# Altium schematic symbol library KHOEMACH_SCHLIB.SchLib: 60 symbols
Pins are listed as number, name and electrical type; pins without a type are passive.

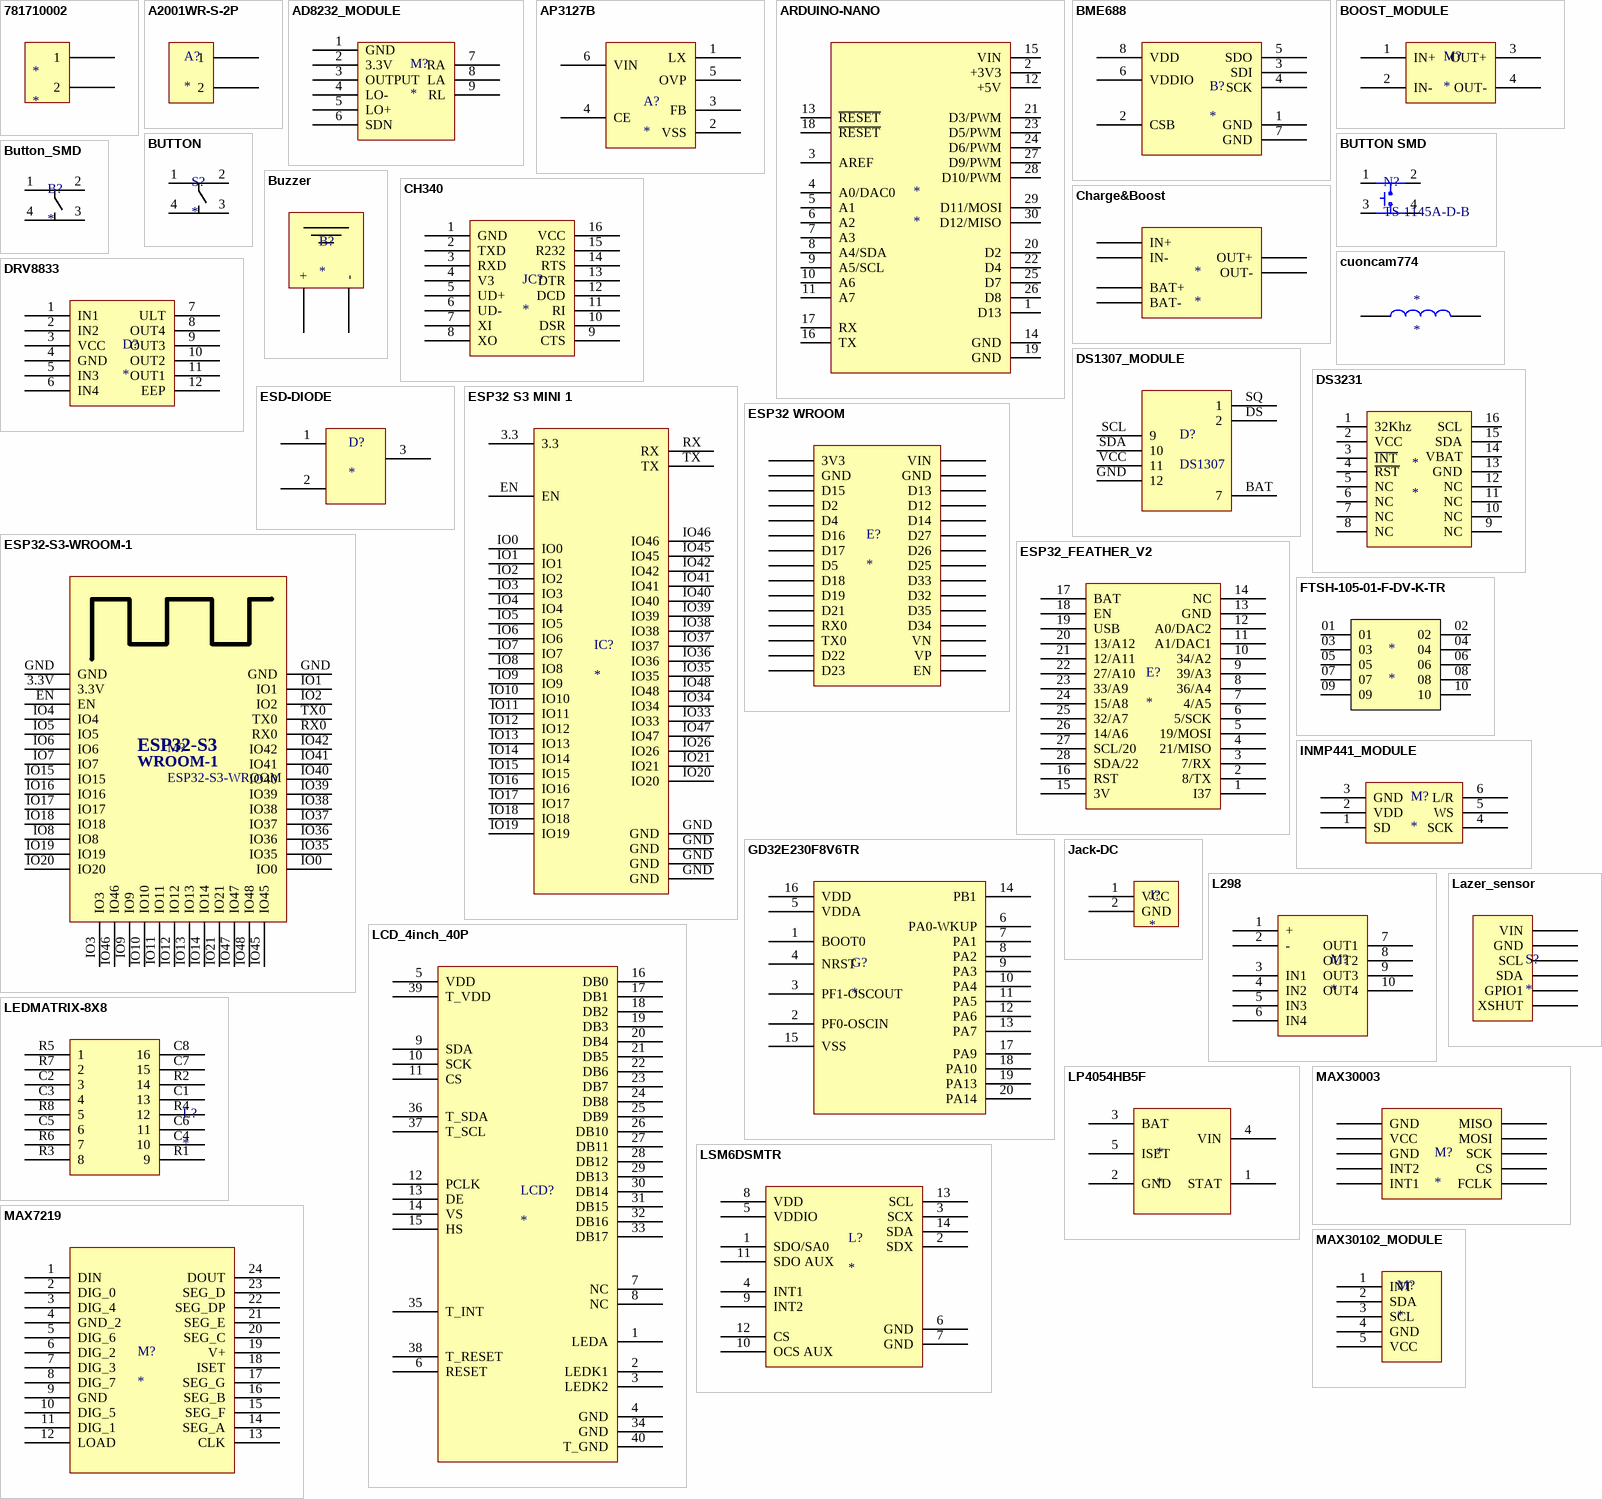
[diagram p0: symbols 781710002 to MAX30102_MODULE]

## 781710002
designator *
footprint 781710002
pins: 1, 2

## A2001WR-S-2P
designator A?
footprint A2001WR-S-2P
pins: 1, 2

## AD8232_MODULE
designator M?
footprint AD8232_MODULE
pins: 1 GND, 2 3.3V, 3 OUTPUT, 4 LO-, 5 LO+, 6 SDN, 7 RA, 8 LA, 9 RL

## AP3127B
designator A?
S0T-23-6L
footprint AP3127B (SOT23, 6-Leads, Body 2,92x2,80mm, Pitch 0,95mm, IPC Medium Density)
pins: 1 LX, 2 VSS, 3 FB, 4 CE, 5 OVP, 6 VIN

## ARDUINO-NANO
designator *
footprint ARDUINO-NANO
pins: 1 D13, 2 +3V3, 3 AREF, 4 A0/DAC0, 5 A1, 6 A2, 7 A3, 8 A4/SDA, 9 A5/SCL, 10 A6, 11 A7, 12 +5V, 13 ~{RESET}, 14 GND, 15 VIN, 16 TX, 17 RX, 18 ~{RESET}, 19 GND, 20 D2, 21 D3/PWM, 22 D4, 23 D5/PWM, 24 D6/PWM, 25 D7, 26 D8, 27 D9/PWM, 28 D10/PWM, 29 D11/MOSI, 30 D12/MISO

## BME688
designator B?
footprint BME688
pins: 1 GND, 2 CSB, 3 SDI, 4 SCK, 5 SDO, 6 VDDIO, 7 GND, 8 VDD

## BOOST_MODULE
designator M?
footprint BOOST_MODULE_MINI
pins: 1 IN+, 2 IN-, 3 OUT+, 4 OUT-

## BUTTON
designator S?
6X6X5mm
footprint BUTTON 4PIN
pins: 1, 2, 3, 4

## BUTTON SMD
designator N?, comment TS-1145A-D-B
https://www.lcsc.com/product-detail/Tactile-Switches_XKB-Connection-TS-1145A-D-B_C18198078.html
footprint BUTTONSMD (SKRPACE010( 2.5X4.2X3.2))
pins: 1, 2, 3, 4

## Button_SMD
designator B?
5x5
footprint Button_SMD (5x5)
pins: 1, 2, 3, 4

## Buzzer
designator B?
12xx
footprint Buzzer
pins: +, -

## CH340
designator JC?
footprint ch340c (chip)
pins: 1 GND, 2 TXD, 3 RXD, 4 V3, 5 UD+, 6 UD-, 7 XI, 8 XO, 9 CTS, 10 DSR, 11 RI, 12 DCD, 13 DTR, 14 RTS, 15 R232, 16 VCC

## Charge&Boost
designator *
footprint Charge&Boost
pins: BAT+, BAT-, IN+, IN-, OUT+, OUT-

## cuoncam774
designator *
footprint cuoncam (7x7x4)
pins: 1, 2

## DRV8833
designator D?
Module
footprint DRV8833 (Module)
pins: 1 IN1, 2 IN2, 3 VCC, 4 GND, 5 IN3, 6 IN4, 7 ULT, 8 OUT4, 9 OUT3, 10 OUT2, 11 OUT1, 12 EEP

## DS1307_MODULE
designator D?, comment DS1307
footprint DS1307-MODULE
footprint DS1307-MODULE
pins: BAT 7, DS 2, GND 12, SCL 9, SDA 10, SQ 1, VCC 11

## DS3231
designator *
footprint DS3231
pins: 1 32Khz (power), 2 VCC (power), 3 ~{INT} (power), 4 ~{RST} (power), 5 NC (power), 6 NC (power), 7 NC (power), 8 NC (power), 9 NC (power), 10 NC (power), 11 NC (power), 12 NC (power), 13 GND (power), 14 VBAT (power), 15 SDA (power), 16 SCL (power)

## ESD-DIODE
designator D?
footprint ESD-DIODE (CESDBLC5V0AP-SOT23)
pins: 1, 2, 3

## ESP32 S3 MINI 1
designator IC?
footprint ESP32 S3 MINI1
pins: 3.3, EN, GND, GND, GND, GND, IO0, IO1, IO2, IO3, IO4, IO5, IO6, IO7, IO8, IO9, IO10, IO11, IO12, IO13, IO14, IO15, IO16, IO17, IO18, IO19, IO20, IO21, IO26, IO33, IO34, IO35, IO36, IO37, IO38, IO39, IO40, IO41, IO42, IO45, IO46, IO47, IO48, RX, TX

## ESP32 WROOM
designator E?
footprint ESP32 WROOM
pins: 3V3, D2, D4, D5, D12, D13, D14, D15, D16, D17, D18, D19, D21, D22, D23, D25, D26, D27, D32, D33, D34, D35, EN, GND, GND, RX0, TX0, VIN, VN, VP

## ESP32-S3-WROOM-1
designator M?, comment ESP32-S3-WROOM
Datasheet: https://www.espressif.com/sites/default/files/documentation/esp32-s3-wroom-1_wroom-1u_datasheet_en.pdf
footprint ESP32-S3-WROOM-1
pins: 3.3V, EN, GND, GND, IO0, IO1, IO2, IO3, IO4, IO5, IO6, IO7, IO8, IO9, IO10, IO11, IO12, IO13, IO14, IO15, IO16, IO17, IO18, IO19, IO20, IO21, IO35, IO36, IO37, IO38, IO39, IO40, IO41, IO42, IO45, IO46, IO47, IO48, RX0, TX0
text: ESP32-S3; WROOM-1

## ESP32_FEATHER_V2
designator E?
ESP32 Feather V2
footprint ESP32_FEATHER_V2
pins: 1 I37, 2 8/TX, 3 7/RX, 4 21/MISO, 5 19/MOSI, 6 5/SCK, 7 4/A5, 8 36/A4, 9 39/A3, 10 34/A2, 11 A1/DAC1, 12 A0/DAC2, 13 GND, 14 NC, 15 3V, 16 RST, 17 BAT, 18 EN, 19 USB, 20 13/A12, 21 12/A11, 22 27/A10, 23 33/A9, 24 15/A8, 25 32/A7, 26 14/A6, 27 SCL/20, 28 SDA/22

## FTSH-105-01-F-DV-K-TR
designator *
footprint FTSH-105-01-F-DV-K-TR
pins: 01, 02, 03, 04, 05, 06, 07, 08, 09, 10

## GD32E230F8V6TR
designator G?
GD32E230Fx TSSOP20 pin definitions
footprint GD32E230F8V6TR (TSOP, 20-Leads, Body 6,50x4,40mm, Pitch 0,65mm, IPC Medium Density)
pins: 1 BOOT0, 2 PF0-OSCIN, 3 PF1-OSCOUT, 4 NRST, 5 VDDA, 6 PA0-WKUP, 7 PA1, 8 PA2, 9 PA3, 10 PA4, 11 PA5, 12 PA6, 13 PA7, 14 PB1, 15 VSS, 16 VDD, 17 PA9, 18 PA10, 19 PA13, 20 PA14

## INMP441_MODULE
designator M?
footprint INMP441_MODULE
pins: 1 SD, 2 VDD, 3 GND, 4 SCK, 5 WS, 6 L/R

## Jack-DC
designator J?
footprint Jack-DC
pins: 1 VCC, 2 GND

## L298
designator M?
Module Mini
footprint L298 (Module)
pins: 1 +, 2 -, 3 IN1, 4 IN2, 5 IN3, 6 IN4, 7 OUT1, 8 OUT2, 9 OUT3, 10 OUT4

## Lazer_sensor
designator S?
VL53L0X (ToF-F) 940nm GY-VL53L0XV2 I2C
footprint Lazer_Sensor (VL53L0X (ToF-F) 940nm GY-VL53L0XV2 I2C)
pins: 1 VIN, 2 GND, 3 SCL, 4 SDA, 5 GPIO1, 6 XSHUT

## LCD_4inch_40P
designator LCD?
footprint LCD_40P_4inch
pins: 1 LEDA, 2 LEDK1, 3 LEDK2, 4 GND, 5 VDD, 6 RESET, 7 NC, 8 NC, 9 SDA, 10 SCK, 11 CS, 12 PCLK, 13 DE, 14 VS, 15 HS, 16 DB0, 17 DB1, 18 DB2, 19 DB3, 20 DB4, 21 DB5, 22 DB6, 23 DB7, 24 DB8, 25 DB9, 26 DB10, 27 DB11, 28 DB12, 29 DB13, 30 DB14, 31 DB15, 32 DB16, 33 DB17, 34 GND, 35 T_INT, 36 T_SDA, 37 T_SCL, 38 T_RESET, 39 T_VDD, 40 T_GND

## LEDMATRIX-8X8
designator L?
footprint LEDMATRIX_8X8 (3mm)
pins: C1 13, C2 3, C3 4, C4 10, C5 6, C6 11, C7 15, C8 16, R1 9, R2 14, R3 8, R4 12, R5 1, R6 7, R7 2, R8 5

## LP4054HB5F
designator *
footprint LP4054HB5F (SOT23-5)
pins: 1 STAT, 2 GND, 3 BAT, 4 VIN, 5 ISET

## LSM6DSMTR
designator L?
footprint LSM6DSMTR
pins: 1 SDO/SA0, 2 SDX, 3 SCX, 4 INT1, 5 VDDIO, 6 GND, 7 GND, 8 VDD, 9 INT2, 10 OCS AUX, 11 SDO AUX, 12 CS, 13 SCL, 14 SDA

## MAX7219
designator M?
footprint MAX7219
pins: 1 DIN, 2 DIG_0, 3 DIG_4, 4 GND_2 (power), 5 DIG_6, 6 DIG_2, 7 DIG_3, 8 DIG_7, 9 GND (power), 10 DIG_5, 11 DIG_1, 12 LOAD, 13 CLK, 14 SEG_A, 15 SEG_F, 16 SEG_B, 17 SEG_G, 18 ISET, 19 V+ (power), 20 SEG_C, 21 SEG_E, 22 SEG_DP, 23 SEG_D, 24 DOUT

## MAX30003
designator M?
footprint MAX30003
pins: CS, FCLK, GND, GND, INT1, INT2, MISO, MOSI, SCK, VCC

## MAX30102_MODULE
designator M?
footprint MAX30102_module
pins: 1 INT, 2 SDA, 3 SCL, 4 GND, 5 VCC

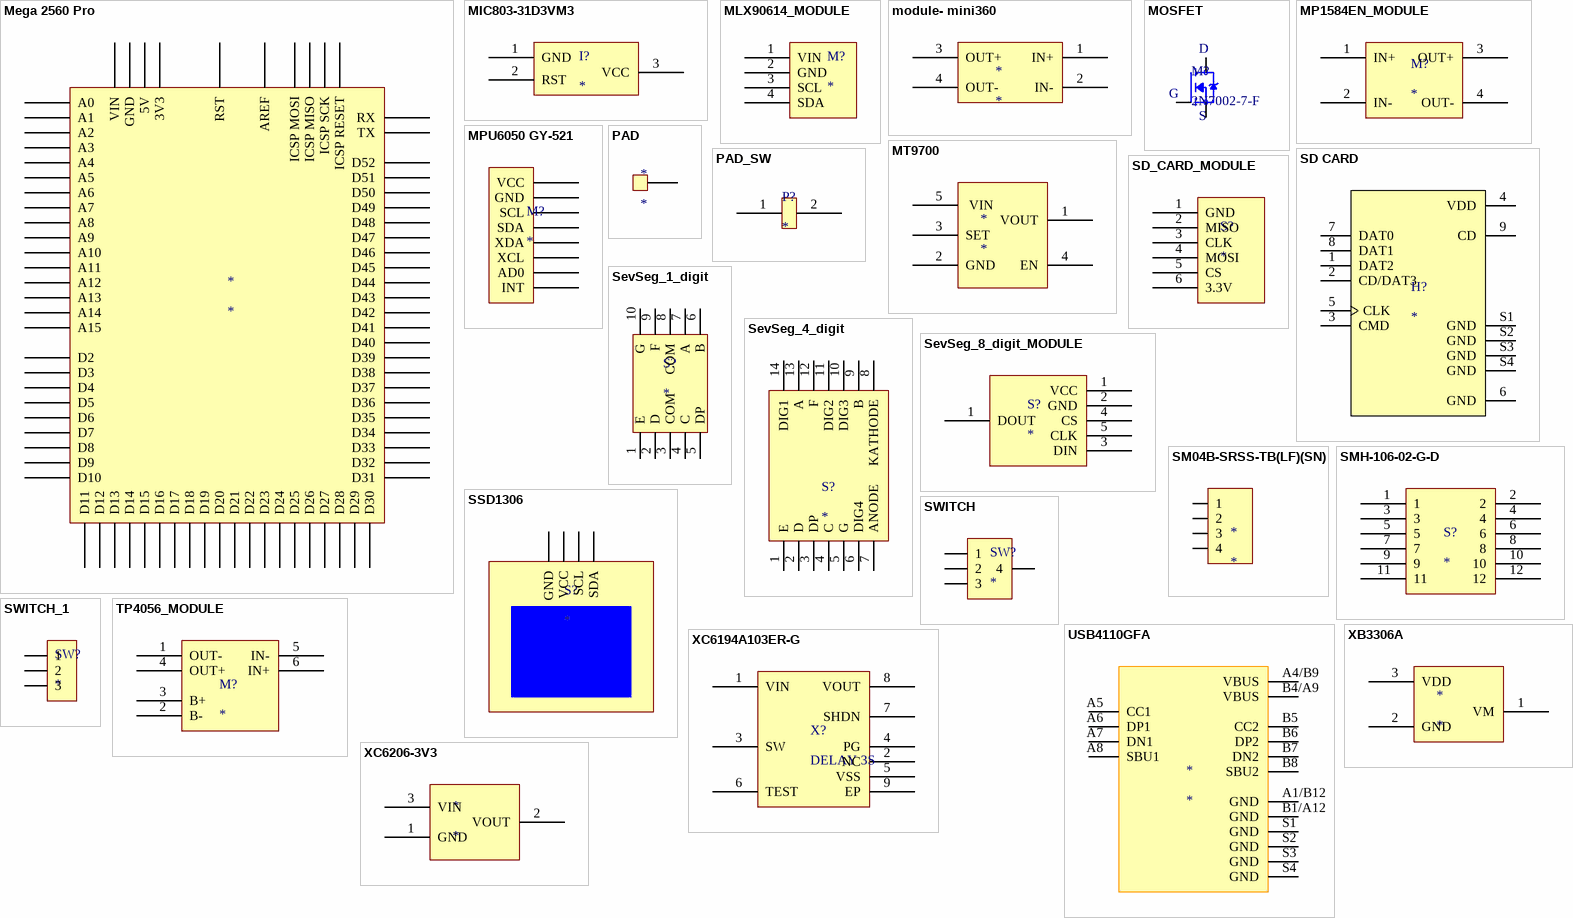
[diagram p1: symbols Mega 2560 Pro to XC6206-3V3]

## Mega 2560 Pro
designator *
footprint Mega 2560 Pro (Module)
pins: 3V3, 5V, A0, A1, A2, A3, A4, A5, A6, A7, A8, A9, A10, A11, A12, A13, A14, A15, AREF, D2, D3, D4, D5, D6, D7, D8, D9, D10, D11, D12, D13, D14, D15, D16, D17, D18, D19, D20, D21, D22, D23, D24, D25, D26, D27, D28, D29, D30, D31, D32, D33, D34, D35, D36, D37, D38, D39, D40, D41, D42, D43, D44, D45, D46, D47, D48, D49, D50, D51, D52, GND, MI ICSP MISO, MO ICSP MOSI, RS ICSP RESET, RST, RX, SCK ICSP SCK, TX, VIN

## MIC803-31D3VM3
designator I?
footprint MIC803-31D3VM3
pins: 1 GND, 2 RST, 3 VCC

## MLX90614_MODULE
designator M?
footprint MLX90614_MODULE
pins: 1 VIN, 2 GND, 3 SCL, 4 SDA

## module- mini360
designator *
footprint MODULE-MINI360
pins: 1 IN+, 2 IN-, 3 OUT+, 4 OUT-

## MOSFET
designator M?, comment 2N7002-7-F
footprint MOSFET (2N7002-7-F)
pins: 1 G, 2 S, 3 D

## MP1584EN_MODULE
designator M?
footprint MP1584EN_MODULE
pins: 1 IN+, 2 IN-, 3 OUT+, 4 OUT-

## MPU6050 GY-521
designator M?
Module
footprint MPU6050 GY-521 (mODULE)
pins: 1 VCC, 2 GND, 3 SCL, 4 SDA, 5 XDA, 6 XCL, 7 AD0, 8 INT

## MT9700
designator *
footprint MT9700
pins: 1 VOUT, 2 GND, 3 SET, 4 EN, 5  VIN

## PAD
designator *
footprint PAD
pins: 1

## PAD_SW
designator P?
footprint PAD_SW
pins: 1 SW1, 2 SW2

## SD CARD
designator H?
MEM2075-00-140-01-A
footprint SD CARD
pins: 1 DAT2, 2 CD/DAT3, 3 CMD, 4 VDD (power), 5 CLK, 6 GND (power), 7 DAT0, 8 DAT1, 9 CD, S1 GND, S2 GND, S3 GND, S4 GND

## SD_CARD_MODULE
designator S?
footprint MICRO_SD_CARD_MODULE
pins: 1 GND, 2 MISO, 3 CLK, 4 MOSI, 5 CS, 6 3.3V

## SevSeg_1_digit
designator S?
common anode
footprint SevSeg_1_digit
pins: 1 E, 2 D, 3 COM, 4 C, 5 DP, 6 B, 7 A, 8 COM, 9 F, 10 G

## SevSeg_4_digit
designator S?
common anode
footprint SevSeg_4_digit (common anode)
pins: 1 E, 2 D, 3 DP, 4 C, 5 G, 6 DIG4, 7 ANODE, 8 KATHODE, 9 B, 10 DIG3, 11 DIG2, 12 F, 13 A, 14 DIG1

## SevSeg_8_digit_MODULE
designator S?
common kathode, MAX7219
footprint SevSeg_8_digit_MODULE
pins: 1 VCC, 1 DOUT, 2 GND, 3 DIN, 4 CS, 5 CLK

## SM04B-SRSS-TB(LF)(SN)
designator *
footprint SM04B-SRSS-TB(LF)(SN)
pins: 1, 2, 3, 4

## SMH-106-02-G-D
designator S?
footprint SMH-106-02-G-D
pins: 1, 2, 3, 4, 5, 6, 7, 8, 9, 10, 11, 12

## SSD1306
designator S?
0.96 inch, 128x64
footprint SSD1306
pins: 1 SDA, 2 SCL, 3 VCC, 4 GND

## SWITCH
designator SW?
footprint ROCKING SWITCH
pins: 1, 2, 3, 4

## SWITCH_1
designator SW?
footprint SWITCH
pins: 1, 2, 3

## TP4056_MODULE
designator M?
footprint TP4056_MODULE
pins: 1 OUT-, 2 B-, 3 B+, 4 OUT+, 5 IN-, 6 IN+

## USB4110GFA
designator *
footprint USB4110GFA
pins: A1/B12 GND (power), A4/B9 VBUS (power), A5 CC1, A6 DP1, A7 DN1, A8 SBU1, B1/A12 GND (power), B4/A9 VBUS (power), B5 CC2, B6 DP2, B7 DN2, B8 SBU2, S1 GND (power), S2 GND (power), S3 GND (power), S4 GND (power)

## XB3306A
designator *
footprint XB3306A
pins: 1  VM, 2 GND, 3 VDD

## XC6194A103ER-G
designator X?, comment DELAY 3S
footprint XC6194A103ER-G
pins: 1 VIN, 2 NC, 3 SW, 4 PG, 5 VSS, 6 TEST, 7 SHDN, 8 VOUT, 9 EP

## XC6206-3V3
designator *
footprint XC6206-3V3 (SOT23-3)
pins: 1 GND, 2 VOUT, 3 VIN